# Altium schematic symbol library 0.91inch_OLED_Schematic_Package_Library.SCHLIB: 1 symbol
Pins are listed as number, name and electrical type; pins without a type are passive.

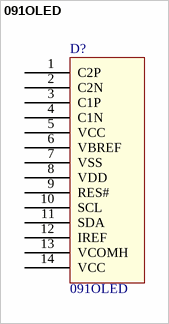
[diagram p0: symbol 091OLED]

## 091OLED
designator D?
footprint 091OLED
pins: 1 C2P, 2 C2N, 3 C1P, 4 C1N, 5 VCC, 6 VBREF, 7 VSS, 8 VDD, 9 RES#, 10 SCL, 11 SDA, 12 IREF, 13 VCOMH, 14 VCC